# Altium schematic symbol library Connectors.SchLib: 46 symbols
Pins are listed as number, name and electrical type; pins without a type are passive.

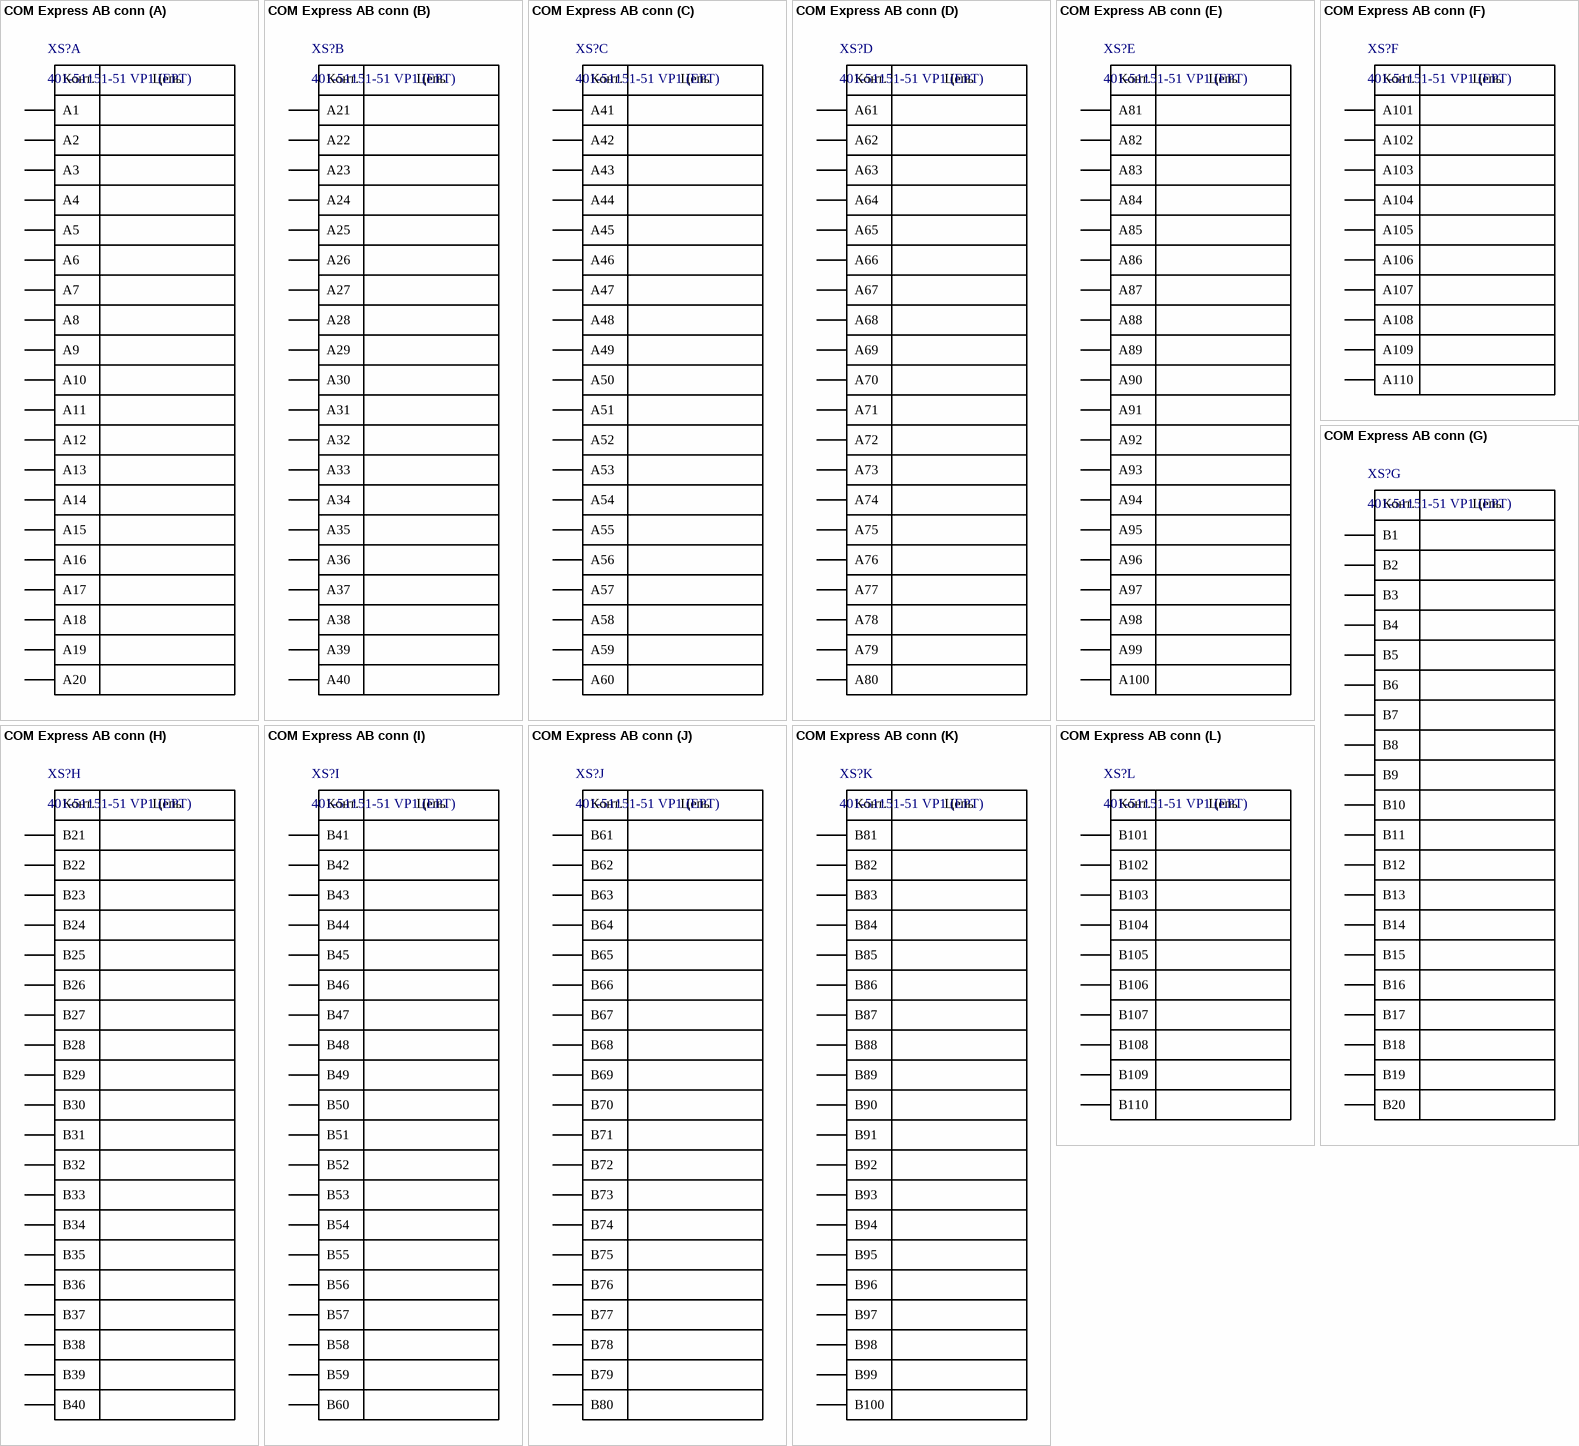
[diagram p0: symbol COM Express AB conn]

## COM Express AB conn
designator XS?, comment 401-51151-51 VP1 (EPT)  Circuit: Цепь  Pin: Конт.
Вилка 220 контактов пайка; value: 401-51151-51 VP1 (EPT)
footprint ept_401-51101-5x_AB
part A pins: A1, A2, A3, A4, A5, A6, A7, A8, A9, A10, A11, A12, A13, A14, A15, A16, A17, A18, A19, A20
part B pins: A21, A22, A23, A24, A25, A26, A27, A28, A29, A30, A31, A32, A33, A34, A35, A36, A37, A38, A39, A40
part C pins: A41, A42, A43, A44, A45, A46, A47, A48, A49, A50, A51, A52, A53, A54, A55, A56, A57, A58, A59, A60
part D pins: A61, A62, A63, A64, A65, A66, A67, A68, A69, A70, A71, A72, A73, A74, A75, A76, A77, A78, A79, A80
part E pins: A81, A82, A83, A84, A85, A86, A87, A88, A89, A90, A91, A92, A93, A94, A95, A96, A97, A98, A99, A100
part F pins: A101, A102, A103, A104, A105, A106, A107, A108, A109, A110
part G pins: B1, B2, B3, B4, B5, B6, B7, B8, B9, B10, B11, B12, B13, B14, B15, B16, B17, B18, B19, B20
part H pins: B21, B22, B23, B24, B25, B26, B27, B28, B29, B30, B31, B32, B33, B34, B35, B36, B37, B38, B39, B40
part I pins: B41, B42, B43, B44, B45, B46, B47, B48, B49, B50, B51, B52, B53, B54, B55, B56, B57, B58, B59, B60
part J pins: B61, B62, B63, B64, B65, B66, B67, B68, B69, B70, B71, B72, B73, B74, B75, B76, B77, B78, B79, B80
part K pins: B81, B82, B83, B84, B85, B86, B87, B88, B89, B90, B91, B92, B93, B94, B95, B96, B97, B98, B99, B100
part L pins: B101, B102, B103, B104, B105, B106, B107, B108, B109, B110

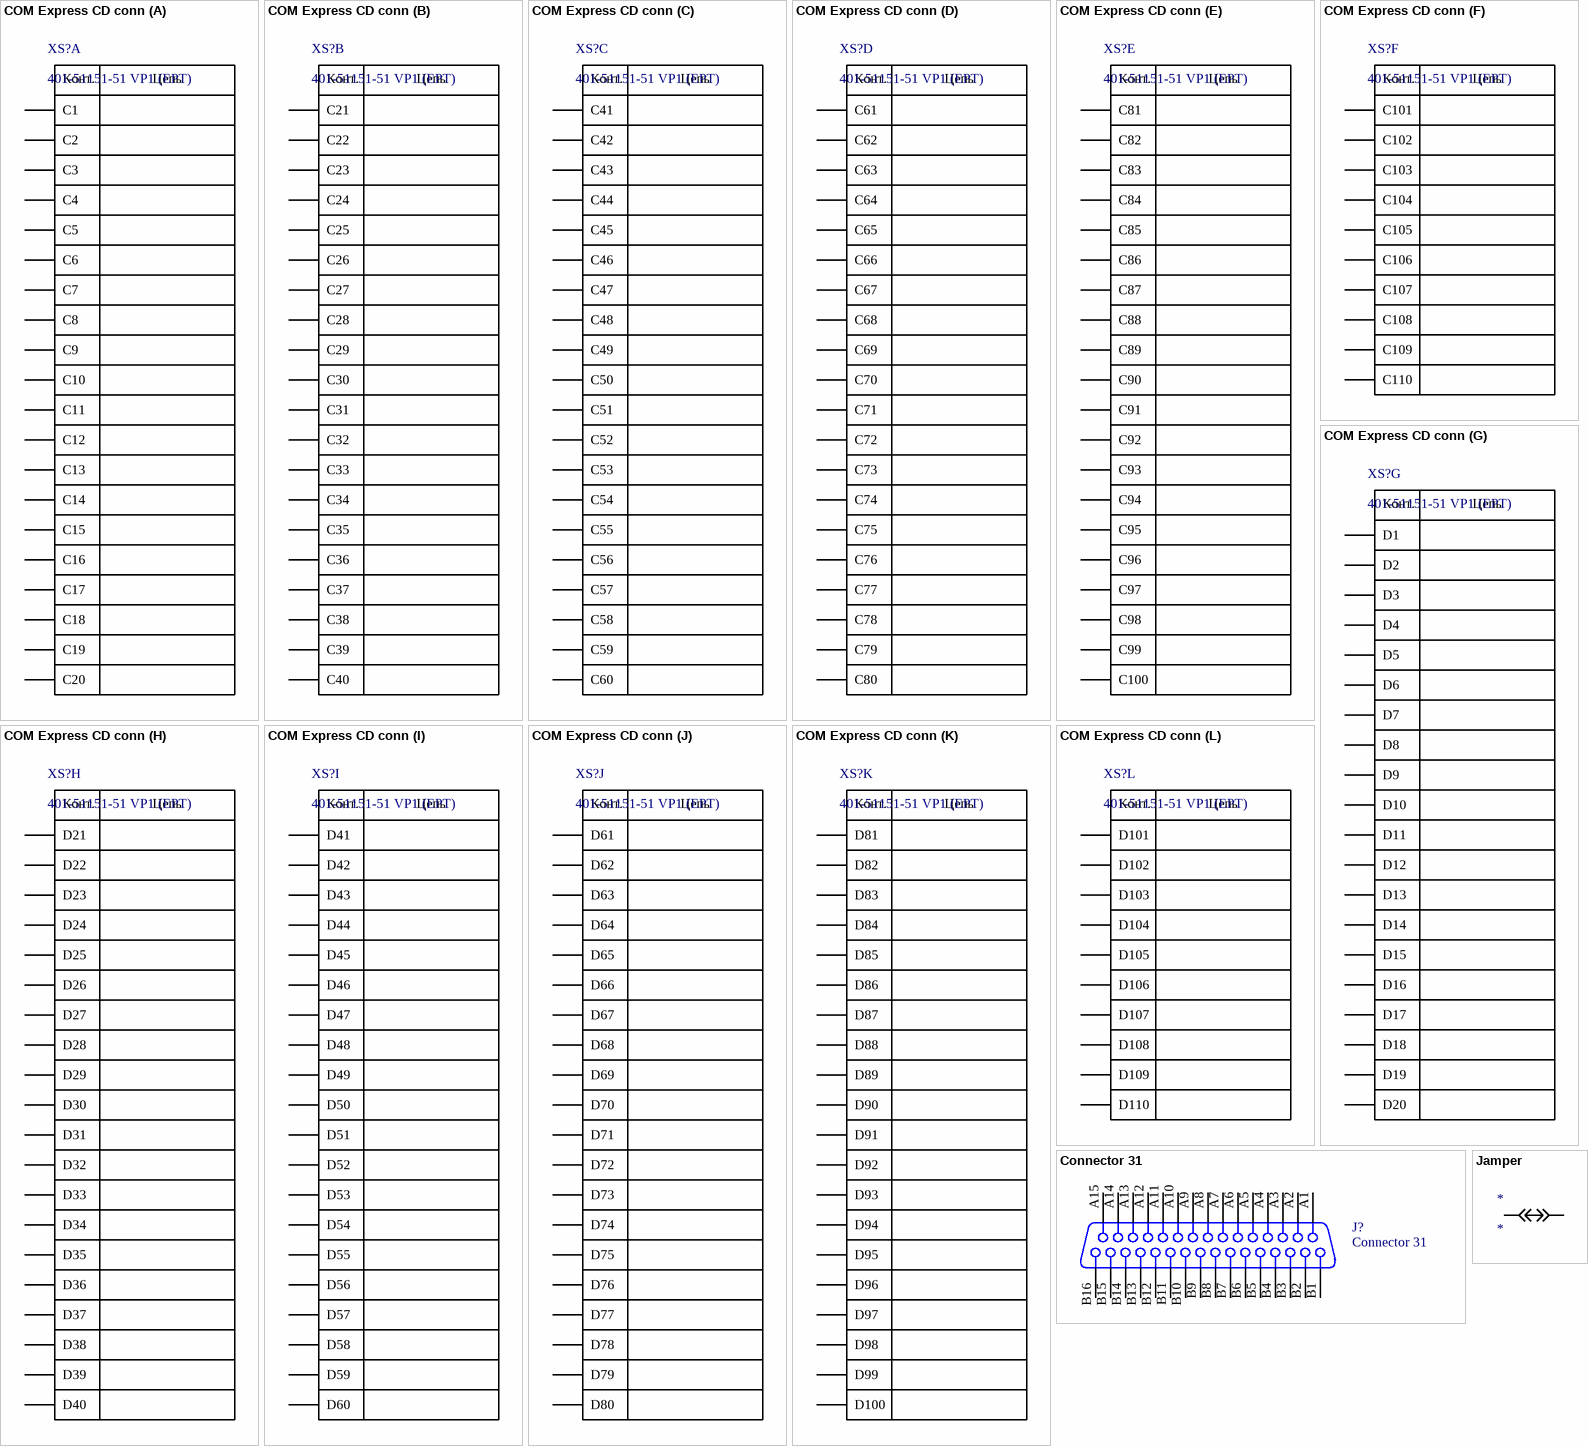
[diagram p1: symbols COM Express CD conn to Jamper]

## COM Express CD conn
designator XS?, comment 401-51151-51 VP1 (EPT)  Circuit: Цепь  Pin: Конт.
Вилка 220 контактов пайка; value: 401-51151-51 VP1 (EPT)
footprint ept_401-51101-5x_CD
part A pins: C1, C2, C3, C4, C5, C6, C7, C8, C9, C10, C11, C12, C13, C14, C15, C16, C17, C18, C19, C20
part B pins: C21, C22, C23, C24, C25, C26, C27, C28, C29, C30, C31, C32, C33, C34, C35, C36, C37, C38, C39, C40
part C pins: C41, C42, C43, C44, C45, C46, C47, C48, C49, C50, C51, C52, C53, C54, C55, C56, C57, C58, C59, C60
part D pins: C61, C62, C63, C64, C65, C66, C67, C68, C69, C70, C71, C72, C73, C74, C75, C76, C77, C78, C79, C80
part E pins: C81, C82, C83, C84, C85, C86, C87, C88, C89, C90, C91, C92, C93, C94, C95, C96, C97, C98, C99, C100
part F pins: C101, C102, C103, C104, C105, C106, C107, C108, C109, C110
part G pins: D1, D2, D3, D4, D5, D6, D7, D8, D9, D10, D11, D12, D13, D14, D15, D16, D17, D18, D19, D20
part H pins: D21, D22, D23, D24, D25, D26, D27, D28, D29, D30, D31, D32, D33, D34, D35, D36, D37, D38, D39, D40
part I pins: D41, D42, D43, D44, D45, D46, D47, D48, D49, D50, D51, D52, D53, D54, D55, D56, D57, D58, D59, D60
part J pins: D61, D62, D63, D64, D65, D66, D67, D68, D69, D70, D71, D72, D73, D74, D75, D76, D77, D78, D79, D80
part K pins: D81, D82, D83, D84, D85, D86, D87, D88, D89, D90, D91, D92, D93, D94, D95, D96, D97, D98, D99, D100
part L pins: D101, D102, D103, D104, D105, D106, D107, D108, D109, D110

## Connector 31
designator J?
Разъем; PackageDocument: F; Positions: 34; Gender: Receptacle Header; Published: 15-Jun-2001; LatestRevisionDate: 17-Jul-2002; LatestRevisionNote: Re-released for DXP Platform.; DatasheetDocument: 3-Apr-1991; PackageReference: 174207-5; Publisher: Altium Limited; Orientation: Right Angle
footprint 050DSUB1.27-2H34 (Connector; D Subminiature; 34 Position; Right Angle; Pitch 1.27 mm)
signal-integrity model Connector
pins: A1, A2, A3, A4, A5, A6, A7, A8, A9, A10, A11, A12, A13, A14, A15, B1, B2, B3, B4, B5, B6, B7, B8, B9, B10, B11, B12, B13, B14, B15, B16

## Jamper
designator *
footprint power_jamper
pins: 1, 2

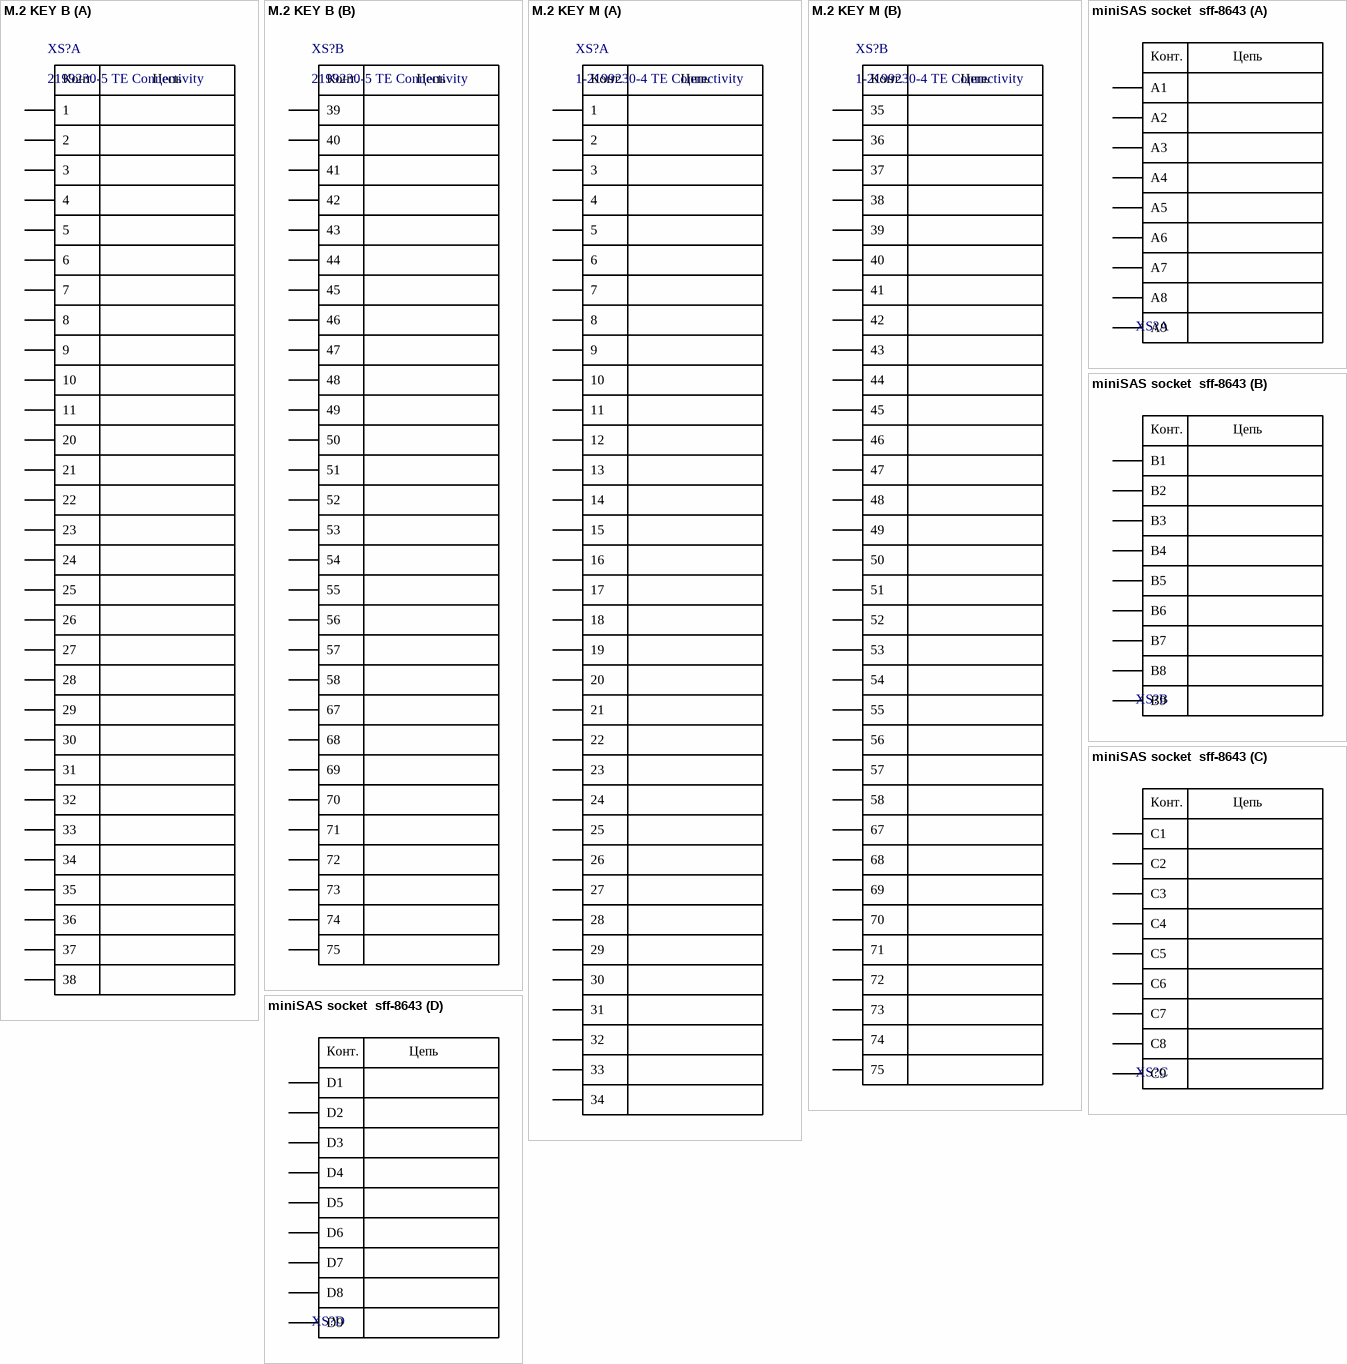
[diagram p2: symbols M.2 KEY B to miniSAS socket  sff-8643]

## M.2 KEY B
designator XS?, comment 2199230-5 TE Connectivity  Circuit: Цепь  Pin: Конт.
M.2 0.5PITCH 4.2H KEY B 30U'' AU; value: 2199230-5 TE Connectivity
footprint CONN67_2199230_B (M.2 slot key B)
part A pins: 1, 2, 3, 4, 5, 6, 7, 8, 9, 10, 11, 20, 21, 22, 23, 24, 25, 26, 27, 28, 29, 30, 31, 32, 33, 34, 35, 36, 37, 38
part B pins: 39, 40, 41, 42, 43, 44, 45, 46, 47, 48, 49, 50, 51, 52, 53, 54, 55, 56, 57, 58, 67, 68, 69, 70, 71, 72, 73, 74, 75

## M.2 KEY M
designator XS?, comment 1-2199230-4 TE Connectivity  Circuit: Цепь  Pin: Конт.
M.2 0.5PITCH 4.2H KEY M 10U'' AU; value: 1-2199230-4 TE Connectivity
footprint CONN67_2199230_M (M.2 slot key M)
part A pins: 1, 2, 3, 4, 5, 6, 7, 8, 9, 10, 11, 12, 13, 14, 15, 16, 17, 18, 19, 20, 21, 22, 23, 24, 25, 26, 27, 28, 29, 30, 31, 32, 33, 34
part B pins: 35, 36, 37, 38, 39, 40, 41, 42, 43, 44, 45, 46, 47, 48, 49, 50, 51, 52, 53, 54, 55, 56, 57, 58, 67, 68, 69, 70, 71, 72, 73, 74, 75

## miniSAS socket  sff-8643
designator XS?, comment Circuit: Цепь  Pin: Конт.  (hidden comment: 10112632-101LF AMPHENOL Co.)
value: 10112632-101LF AMPHENOL Co.; rus_value: 10112632-101LF AMPHENOL Co.
footprint SFF-8643
part A pins: A1, A2, A3, A4, A5, A6, A7, A8, A9
part B pins: B1, B2, B3, B4, B5, B6, B7, B8, B9
part C pins: C1, C2, C3, C4, C5, C6, C7, C8, C9
part D pins: D1, D2, D3, D4, D5, D6, D7, D8, D9

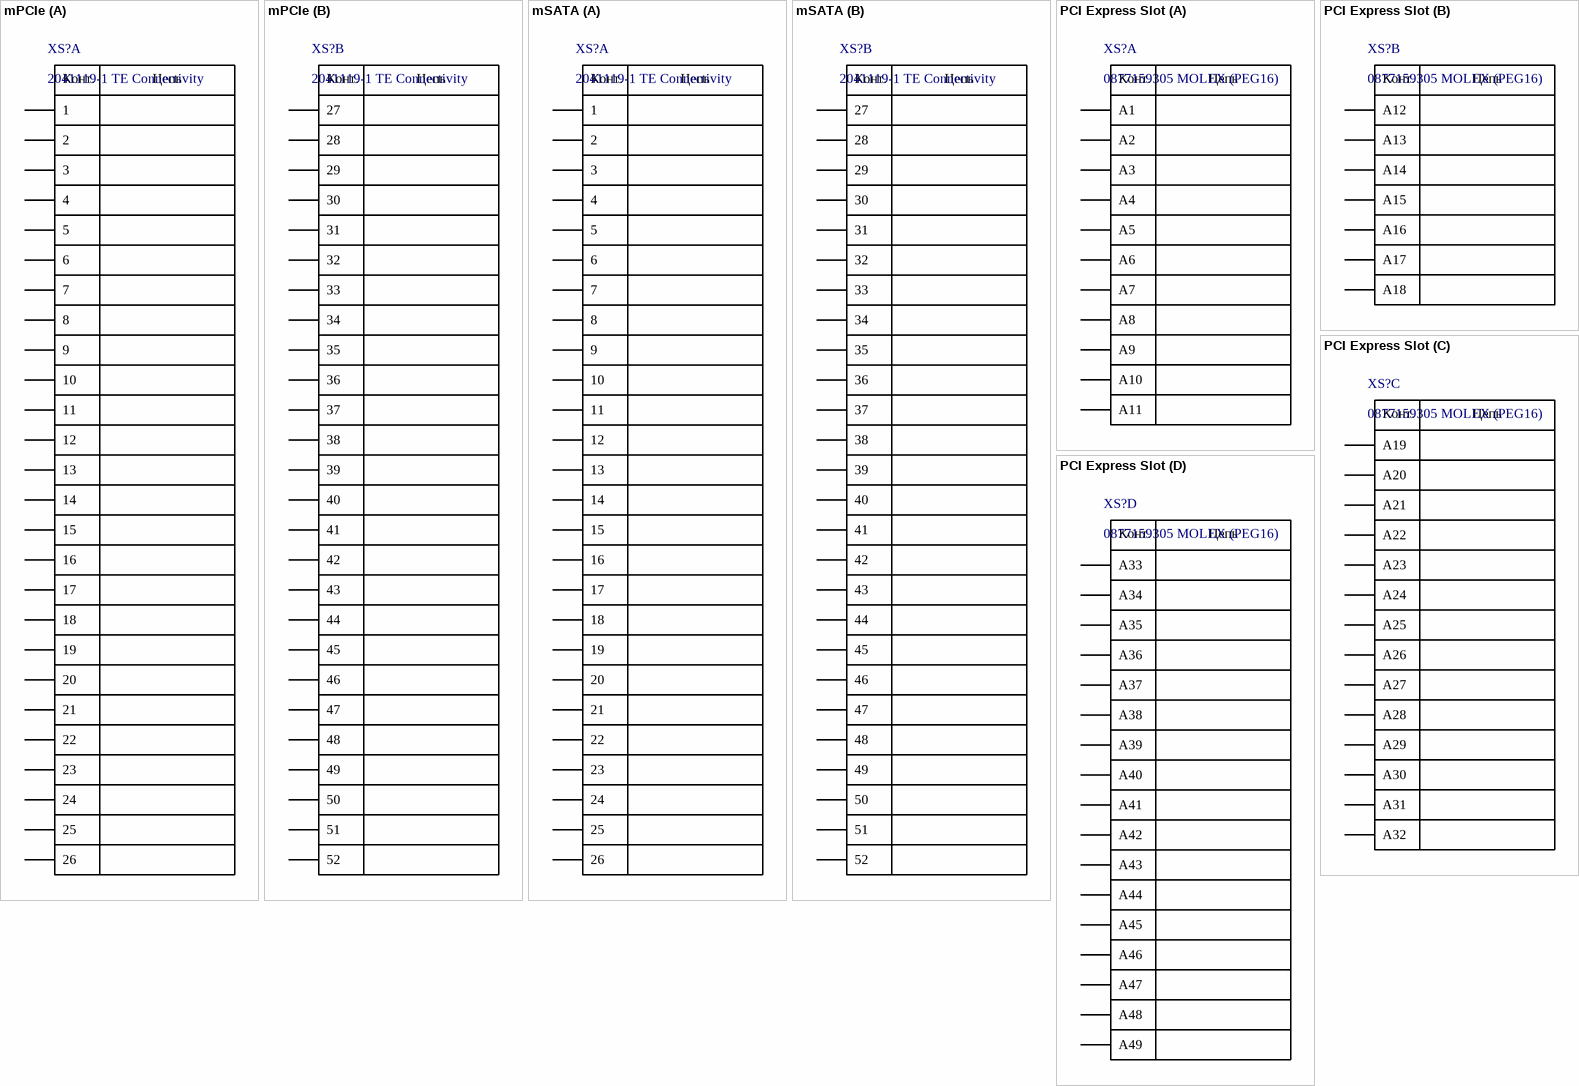
[diagram p3: symbols mPCIe to PCI Express Slot]

## mPCIe
designator XS?, comment 2041119-1 TE Connectivity  Circuit: Цепь  Pin: Конт.
Слот mPCIe; value: 2041119-1 TE Connectivity
part A pins: 1, 2, 3, 4, 5, 6, 7, 8, 9, 10, 11, 12, 13, 14, 15, 16, 17, 18, 19, 20, 21, 22, 23, 24, 25, 26
part B pins: 27, 28, 29, 30, 31, 32, 33, 34, 35, 36, 37, 38, 39, 40, 41, 42, 43, 44, 45, 46, 47, 48, 49, 50, 51, 52

## mSATA
designator XS?, comment 2041119-1 TE Connectivity  Circuit: Цепь  Pin: Конт.
Слот mSATA; value: 2041119-1 TE Connectivity
part A pins: 1, 2, 3, 4, 5, 6, 7, 8, 9, 10, 11, 12, 13, 14, 15, 16, 17, 18, 19, 20, 21, 22, 23, 24, 25, 26
part B pins: 27, 28, 29, 30, 31, 32, 33, 34, 35, 36, 37, 38, 39, 40, 41, 42, 43, 44, 45, 46, 47, 48, 49, 50, 51, 52

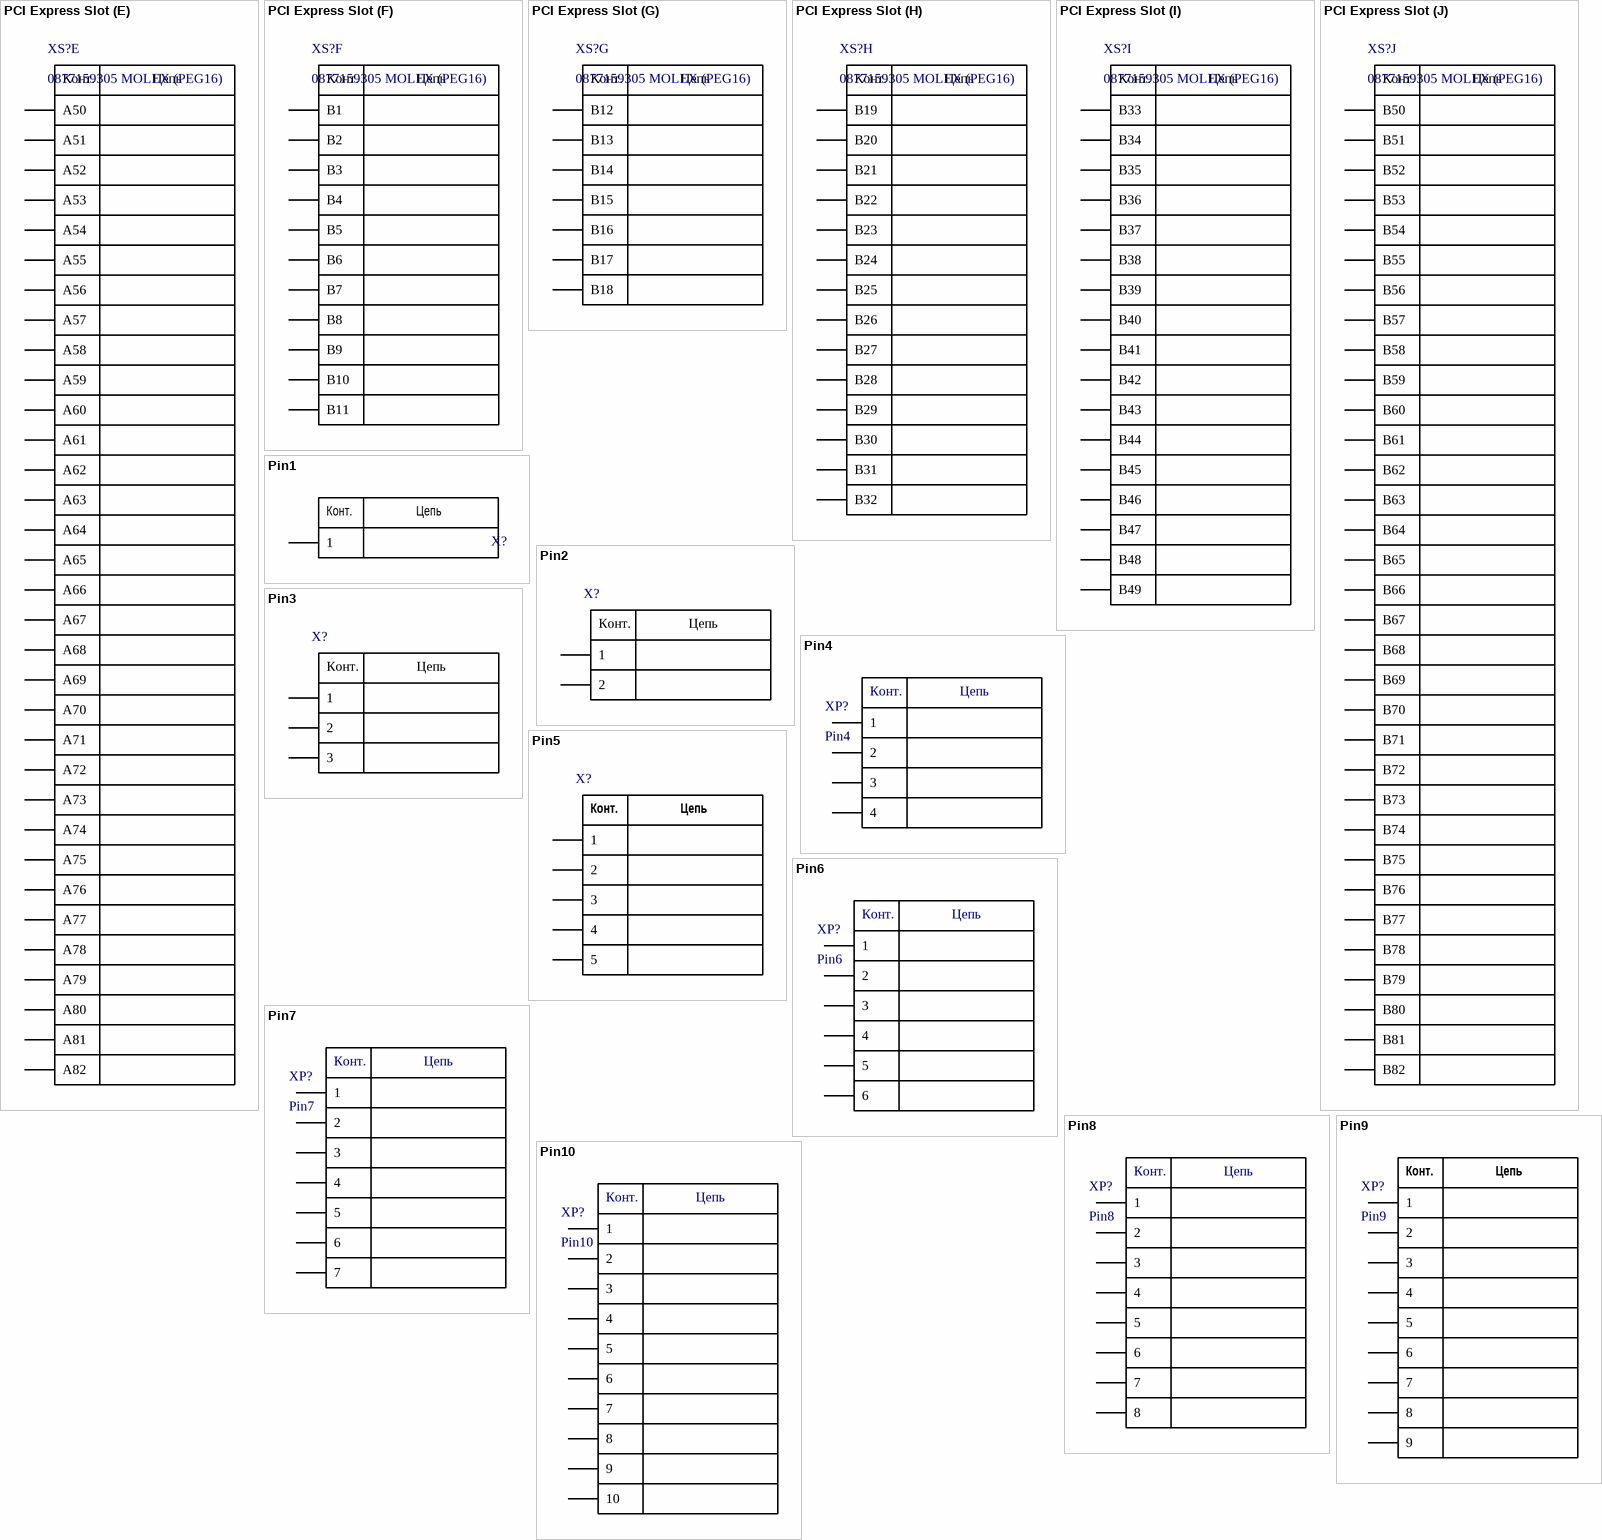
[diagram p4: symbols PCI Express Slot to Pin10]

## PCI Express Slot
designator XS?, comment 0877159305 MOLEX (PEG16)  Circuit: Цепь  Pin: Конт.
Слот PCIe 16line; value: 0877159305 MOLEX (PEG16)
part A pins: A1, A2, A3, A4, A5, A6, A7, A8, A9, A10, A11
part B pins: A12, A13, A14, A15, A16, A17, A18
part C pins: A19, A20, A21, A22, A23, A24, A25, A26, A27, A28, A29, A30, A31, A32
part D pins: A33, A34, A35, A36, A37, A38, A39, A40, A41, A42, A43, A44, A45, A46, A47, A48, A49
part E pins: A50, A51, A52, A53, A54, A55, A56, A57, A58, A59, A60, A61, A62, A63, A64, A65, A66, A67, A68, A69, A70, A71, A72, A73, A74, A75, A76, A77, A78, A79, A80, A81, A82
part F pins: B1, B2, B3, B4, B5, B6, B7, B8, B9, B10, B11
part G pins: B12, B13, B14, B15, B16, B17, B18
part H pins: B19, B20, B21, B22, B23, B24, B25, B26, B27, B28, B29, B30, B31, B32
part I pins: B33, B34, B35, B36, B37, B38, B39, B40, B41, B42, B43, B44, B45, B46, B47, B48, B49
part J pins: B50, B51, B52, B53, B54, B55, B56, B57, B58, B59, B60, B61, B62, B63, B64, B65, B66, B67, B68, B69, B70, B71, B72, B73, B74, B75, B76, B77, B78, B79, B80, B81, B82

## Pin1
designator X?  Pin: Конт.  Circuit: Цепь  (hidden comment: Pin1)
Разъем; value: *; rus_value: *
footprint PLS-1
pins: 1

## Pin2
designator X?, comment Circuit: Цепь  Pin: Конт.  (hidden comment: pin2)
value: pin2; rus_value: pin2
pins: 1, 2

## Pin3
designator X?, comment Circuit: Цепь  Pin: Конт.  (hidden comment: pin3)
value: pin3; rus_value: pin3
pins: 1, 2, 3

## Pin4
designator XP?  Circuit: Цепь  Pin: Конт.
value: Pin4; rus_value: Pin4
pins: 1, 2, 3, 4

## Pin5
designator X?, comment Circuit: Цепь  Pin: Конт.  (hidden comment: pin5)
value: pin5; rus_value: pin5
pins: 1, 2, 3, 4, 5

## Pin6
designator XP?  Circuit: Цепь  Pin: Конт.
value: Pin6; rus_value: Pin6
pins: 1, 2, 3, 4, 5, 6

## Pin7
designator XP?  Circuit: Цепь  Pin: Конт.
value: Pin7; rus_value: Pin7
pins: 1, 2, 3, 4, 5, 6, 7

## Pin8
designator XP?  Circuit: Цепь  Pin: Конт.
value: Pin8; rus_value: Pin8
pins: 1, 2, 3, 4, 5, 6, 7, 8

## Pin9
designator XP?  Circuit: Цепь  Pin: Конт.
value: Pin12; rus_value: Pin12
pins: 1, 2, 3, 4, 5, 6, 7, 8, 9

## Pin10
designator XP?  Circuit: Цепь  Pin: Конт.
value: Pin12; rus_value: Pin12
pins: 1, 2, 3, 4, 5, 6, 7, 8, 9, 10

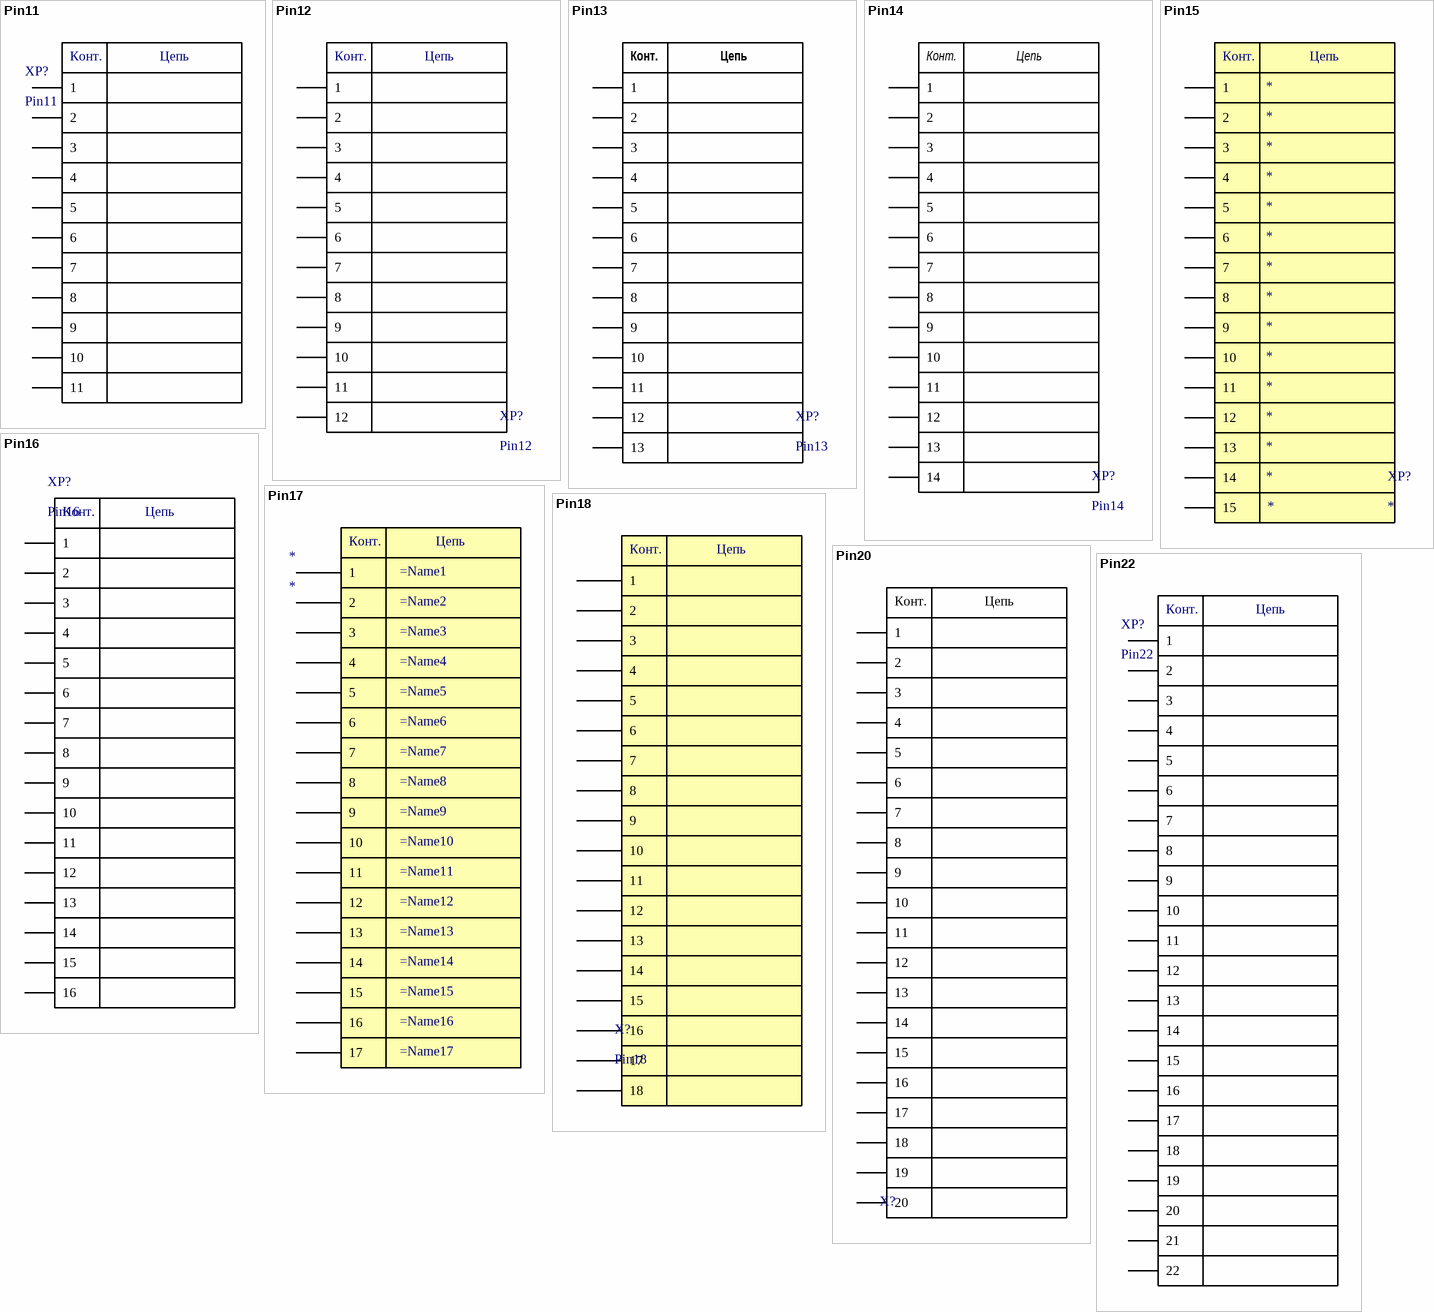
[diagram p5: symbols Pin11 to Pin22]

## Pin11
designator XP?  Circuit: Цепь  Pin: Конт.
value: Pin11; rus_value: Pin11
pins: 1, 2, 3, 4, 5, 6, 7, 8, 9, 10, 11

## Pin12
designator XP?  Circuit: Цепь  Pin: Конт.
value: Pin12; rus_value: Pin12
pins: 1, 2, 3, 4, 5, 6, 7, 8, 9, 10, 11, 12

## Pin13
designator XP?  Circuit: Цепь  Pin: Конт.
value: Pin12; rus_value: Pin12
pins: 1, 2, 3, 4, 5, 6, 7, 8, 9, 10, 11, 12, 13

## Pin14
designator XP?  Circuit: Цепь  Pin: Конт.
value: Pin12; rus_value: Pin12
pins: 1, 2, 3, 4, 5, 6, 7, 8, 9, 10, 11, 12, 13, 14

## Pin15
designator XP?
Name1: *; Name2: *; Name3: *; Name4: *; Name5: *; Name6: *; Name7: *; Name8: *; Name9: *; Name10: *; Name11: *; Name12: *; Name13: *; Name14: *; Name15: *; value: *; rus_value: *
pins: 1, 2, 3, 4, 5, 6, 7, 8, 9, 10, 11, 12, 13, 14, 15
text: Конт.; Цепь

## Pin16
designator XP?  Pin: Конт.  Circuit: Цепь
rus_value: Pin16; value: Pin16
footprint BH1.27-16
footprint IDC16
pins: 1, 2, 3, 4, 5, 6, 7, 8, 9, 10, 11, 12, 13, 14, 15, 16

## Pin17
designator *
pins: 1, 2, 3, 4, 5, 6, 7, 8, 9, 10, 11, 12, 13, 14, 15, 16, 17
text: Конт.; Цепь

## Pin18
designator X?
Name1: *
footprint IDC16
pins: 1, 2, 3, 4, 5, 6, 7, 8, 9, 10, 11, 12, 13, 14, 15, 16, 17, 18
text: Конт.; Цепь

## Pin20
designator X?, comment Circuit: Цепь  Pin: Конт.  (hidden comment: pin23)
value: pin23; rus_value: pin23
pins: 1, 2, 3, 4, 5, 6, 7, 8, 9, 10, 11, 12, 13, 14, 15, 16, 17, 18, 19, 20

## Pin22
designator XP?  Circuit: Цепь  Pin: Конт.
value: Pin12; rus_value: Pin12
pins: 1, 2, 3, 4, 5, 6, 7, 8, 9, 10, 11, 12, 13, 14, 15, 16, 17, 18, 19, 20, 21, 22

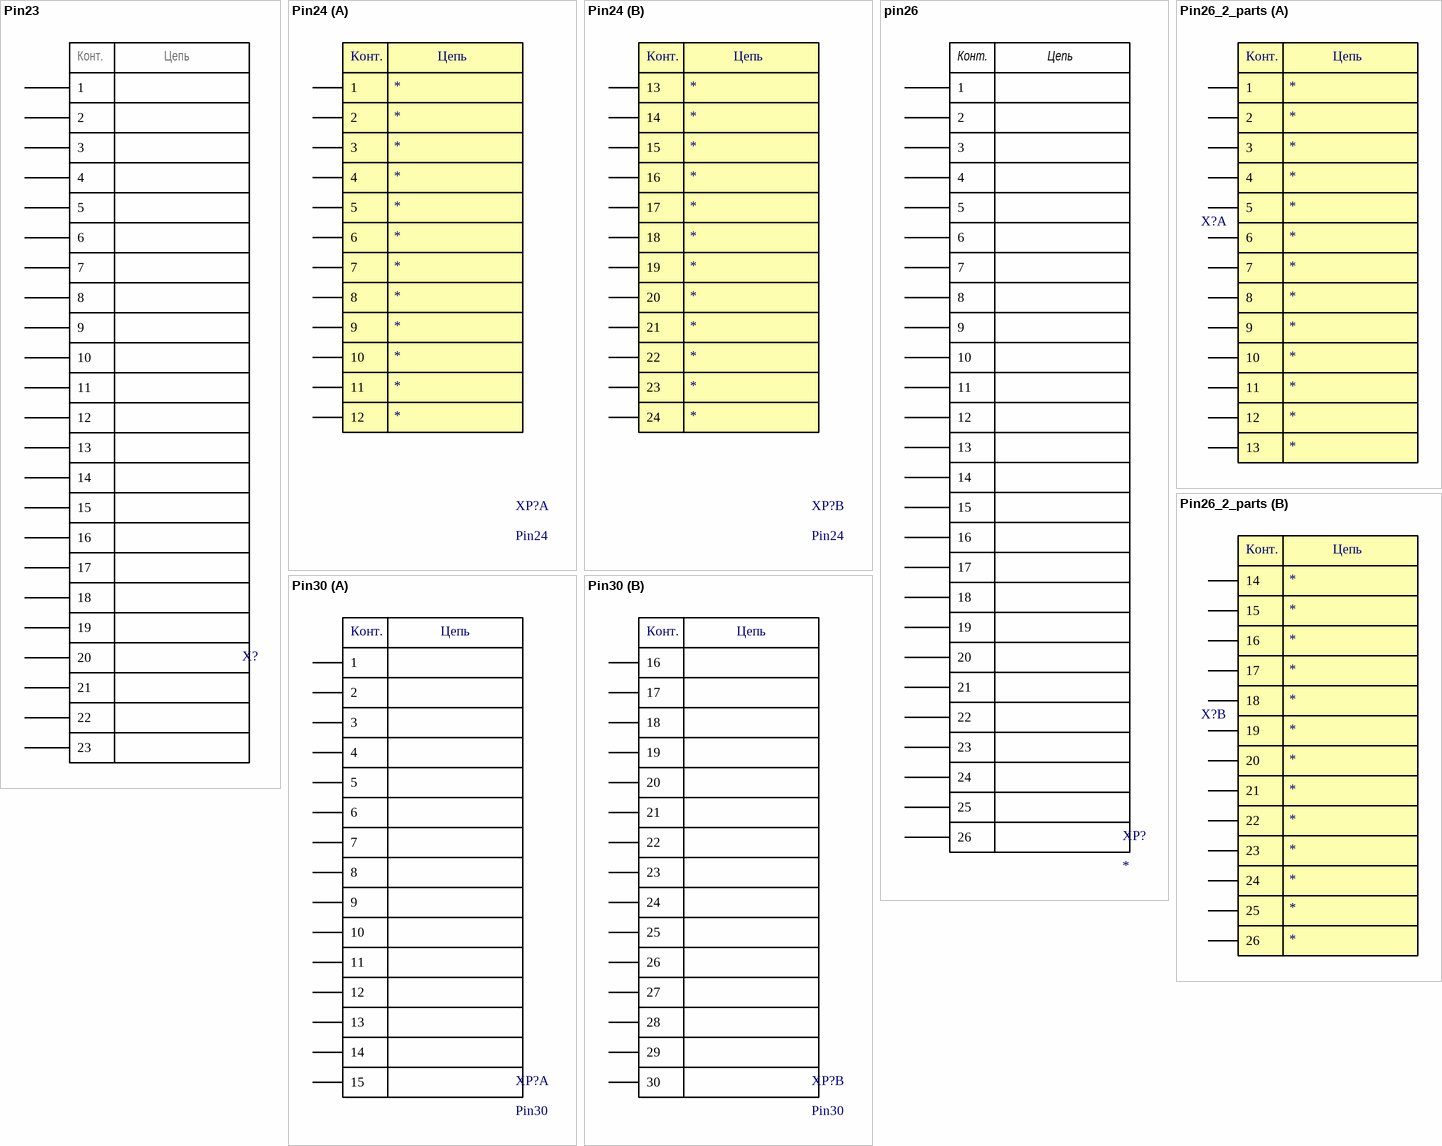
[diagram p6: symbols Pin23 to Pin30]

## Pin23
designator X?, comment pin23  (value not drawn)
value: pin23; rus_value: pin23
pins: 1, 2, 3, 4, 5, 6, 7, 8, 9, 10, 11, 12, 13, 14, 15, 16, 17, 18, 19, 20, 21, 22, 23
text: Конт.; Цепь

## Pin24
designator XP?
Name16: *; Name17: *; Name18: *; Name19: *; Name20: *; Name21: *; Name22: *; Name23: *; Name24: *; Name1: *; Name2: *; Name3: *; Name4: *; Name5: *; Name6: *; Name7: *; Name8: *; Name9: *; Name10: *; Name11: *; Name12: *; Name13: *; Name14: *; Name15: *
part A pins: 1, 2, 3, 4, 5, 6, 7, 8, 9, 10, 11, 12
part B pins: 13, 14, 15, 16, 17, 18, 19, 20, 21, 22, 23, 24
part A text: Конт.; Цепь
part B text: Конт.; Цепь

## pin26
designator XP?  Контакт: Конт.
Разъем; value: *; rus_value: *; Цепь: Цепь
pins: 1, 2, 3, 4, 5, 6, 7, 8, 9, 10, 11, 12, 13, 14, 15, 16, 17, 18, 19, 20, 21, 22, 23, 24, 25, 26

## Pin26_2_parts
designator X?  (value not drawn)
Name1: *; Name2: *; Name3: *; Name4: *; Name5: *; Name6: *; Name7: *; Name8: *; Name9: *; Name10: *; Name11: *; Name12: *; Name13: *; Name14: *; Name15: *; Name16: *; Name17: *; Name18: *; Name19: *; Name20: *; Name21: *; Name22: *; Name23: *; Name24: *; Name25: *; Name26: *
part A pins: 1, 2, 3, 4, 5, 6, 7, 8, 9, 10, 11, 12, 13
part B pins: 14, 15, 16, 17, 18, 19, 20, 21, 22, 23, 24, 25, 26
part A text: Конт.; Цепь
part B text: Конт.; Цепь

## Pin30
designator XP?  Circuit: Цепь  Pin: Конт.
value: Pin30; rus_value: Pin30
footprint IDC16
part A pins: 1, 2, 3, 4, 5, 6, 7, 8, 9, 10, 11, 12, 13, 14, 15
part B pins: 16, 17, 18, 19, 20, 21, 22, 23, 24, 25, 26, 27, 28, 29, 30

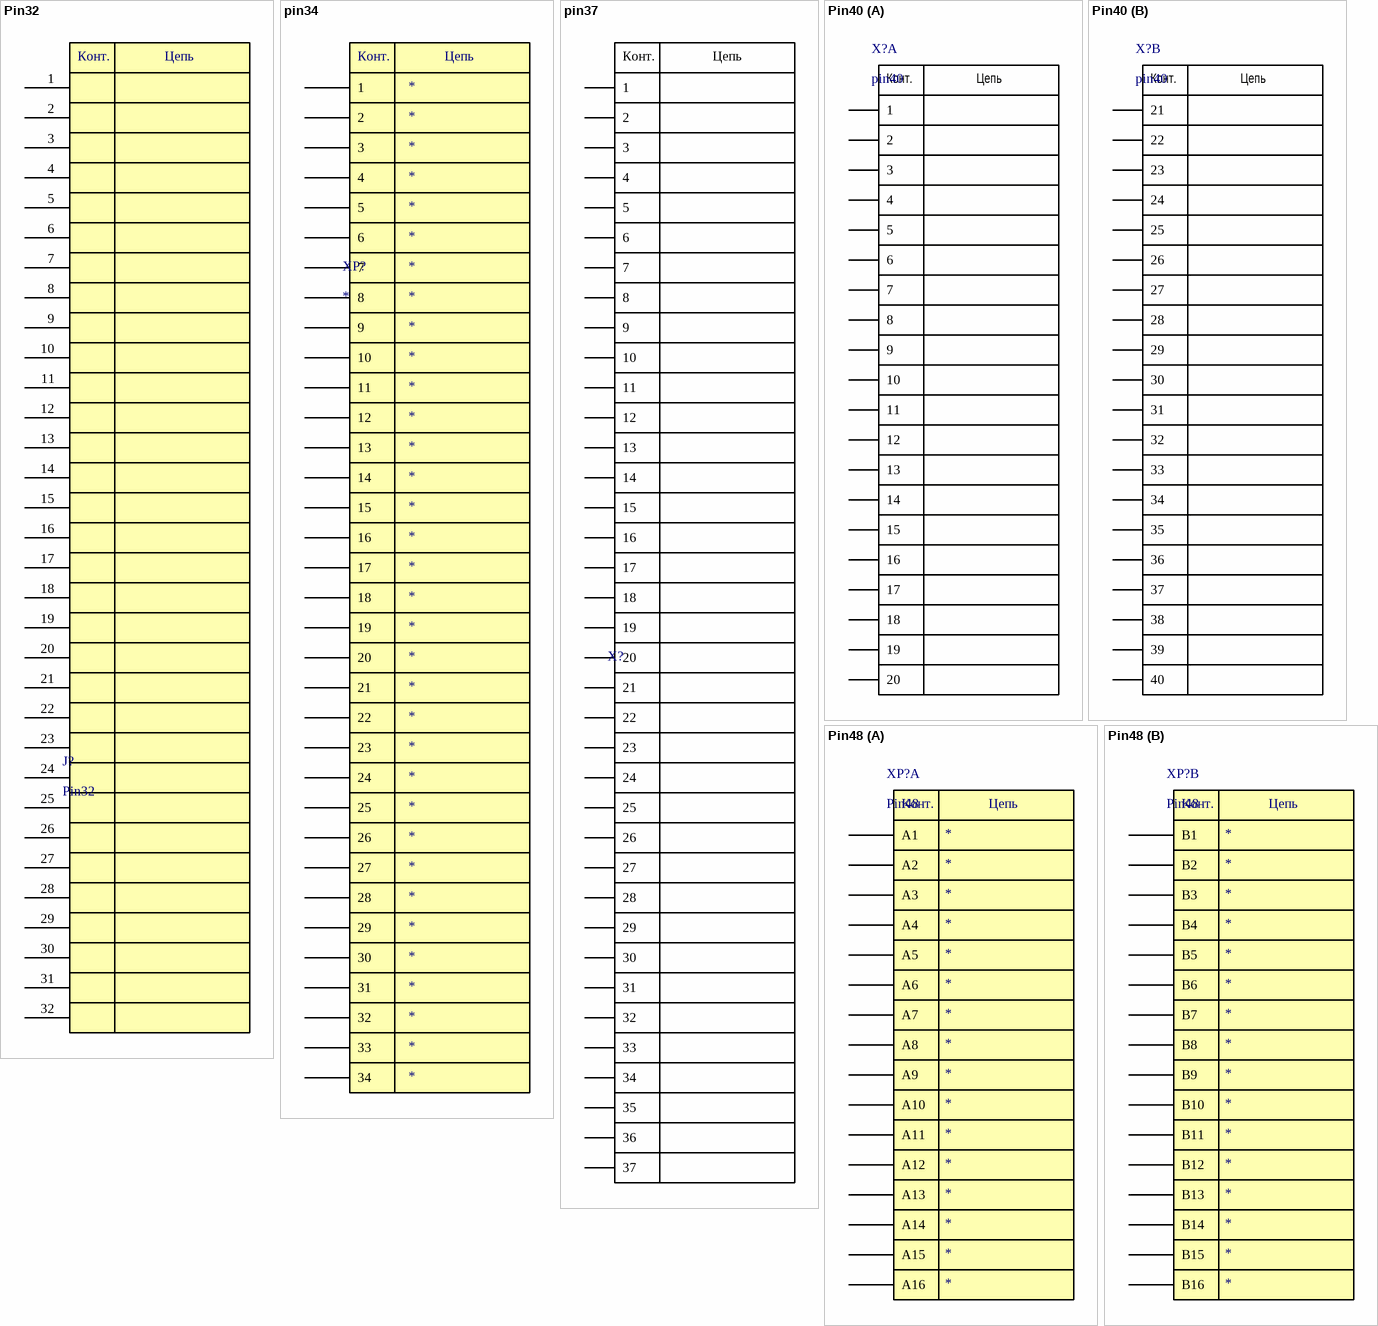
[diagram p7: symbols Pin32 to Pin48]

## Pin32
designator J?
Name1: *
footprint plld1.2-2x40S-Обрезанный-32PIN
footprint plld1.27 - 2x16S
pins: 1, 2, 3, 4, 5, 6, 7, 8, 9, 10, 11, 12, 13, 14, 15, 16, 17, 18, 19, 20, 21, 22, 23, 24, 25, 26, 27, 28, 29, 30, 31, 32
text: Конт.; Цепь

## pin34
designator XP?
Name1: *; Name2: *; Name3: *; Name4: *; Name5: *; Name6: *; Name7: *; Name8: *; Name9: *; Name10: *; Name11: *; Name12: *; Name13: *; Name14: *; Name15: *; Name16: *; Name17: *; Name18: *; Name19: *; Name20: *; Name21: *; Name22: *; Name23: *; Name24: *; Name25: *; Name26: *; Name27: *; Name28: *; Name29: *; Name30: *; Name31: *; Name32: *; Name33: *; Name34: *; value: *; rus_value: *
pins: 1, 2, 3, 4, 5, 6, 7, 8, 9, 10, 11, 12, 13, 14, 15, 16, 17, 18, 19, 20, 21, 22, 23, 24, 25, 26, 27, 28, 29, 30, 31, 32, 33, 34
text: Конт.; Цепь

## pin37
designator X?, comment Circuit: Цепь  Pin: Конт.  (hidden comment: pin23)
value: pin23; rus_value: pin23
pins: 1, 2, 3, 4, 5, 6, 7, 8, 9, 10, 11, 12, 13, 14, 15, 16, 17, 18, 19, 20, 21, 22, 23, 24, 25, 26, 27, 28, 29, 30, 31, 32, 33, 34, 35, 36, 37

## Pin40
designator X?, comment pin40  Circuit: Цепь  Pin: Конт.
rus_value: pin40; value: pin40
footprint MF20
footprint PBD-40
part A pins: 1, 2, 3, 4, 5, 6, 7, 8, 9, 10, 11, 12, 13, 14, 15, 16, 17, 18, 19, 20
part B pins: 21, 22, 23, 24, 25, 26, 27, 28, 29, 30, 31, 32, 33, 34, 35, 36, 37, 38, 39, 40

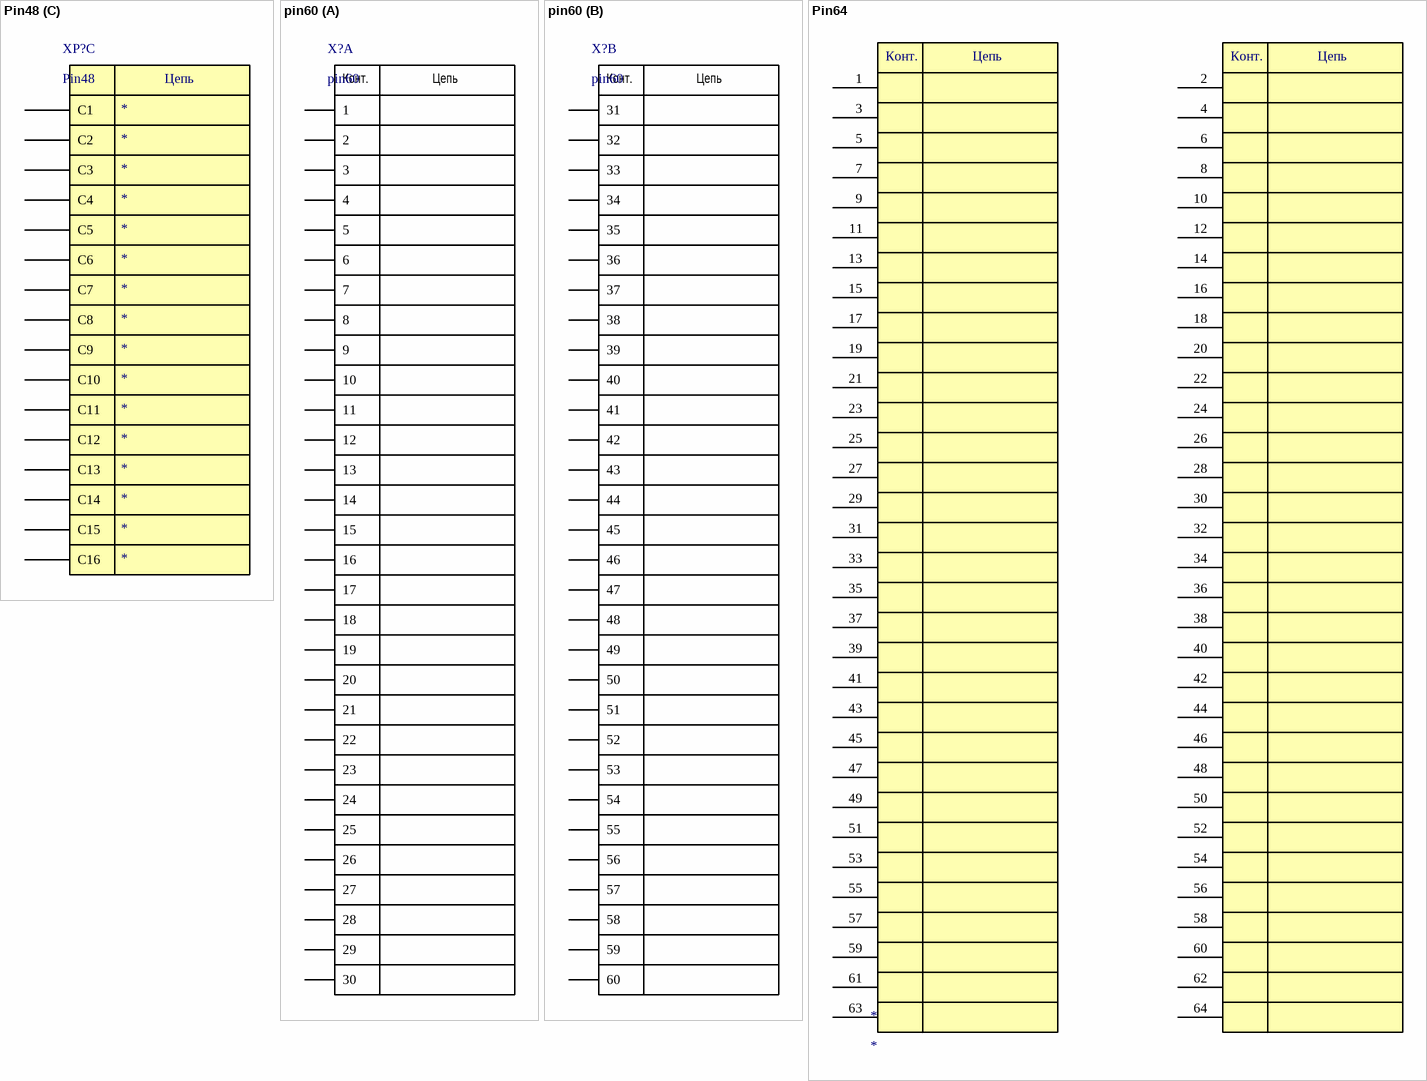
[diagram p8: symbols Pin48 to Pin64]

## Pin48
designator XP?
Name1: *; Name2: *; Name3: *; Name4: *; Name5: *; Name6: *; Name7: *; Name8: *; Name9: *; Name10: *; Name11: *; Name12: *; Name13: *; Name14: *; Name15: *; Name16: *
footprint BH1.27-16
footprint IDC16
part A pins: A1, A2, A3, A4, A5, A6, A7, A8, A9, A10, A11, A12, A13, A14, A15, A16
part B pins: B1, B2, B3, B4, B5, B6, B7, B8, B9, B10, B11, B12, B13, B14, B15, B16
part C pins: C1, C2, C3, C4, C5, C6, C7, C8, C9, C10, C11, C12, C13, C14, C15, C16
part A text: Конт.; Цепь
part B text: Конт.; Цепь
part C text: Цепь

## pin60
designator X?  Circuit: Цепь  Pin: Конт.
value: pin60; rus_value: pin60
footprint PBD-60
part A pins: 1, 2, 3, 4, 5, 6, 7, 8, 9, 10, 11, 12, 13, 14, 15, 16, 17, 18, 19, 20, 21, 22, 23, 24, 25, 26, 27, 28, 29, 30
part B pins: 31, 32, 33, 34, 35, 36, 37, 38, 39, 40, 41, 42, 43, 44, 45, 46, 47, 48, 49, 50, 51, 52, 53, 54, 55, 56, 57, 58, 59, 60

## Pin64
designator *
footprint IDC-64
footprint IDCC-64MS
pins: 1, 2, 3, 4, 5, 6, 7, 8, 9, 10, 11, 12, 13, 14, 15, 16, 17, 18, 19, 20, 21, 22, 23, 24, 25, 26, 27, 28, 29, 30, 31, 32, 33, 34, 35, 36, 37, 38, 39, 40, 41, 42, 43, 44, 45, 46, 47, 48, 49, 50, 51, 52, 53, 54, 55, 56, 57, 58, 59, 60, 61, 62, 63, 64
text: Конт.; Цепь

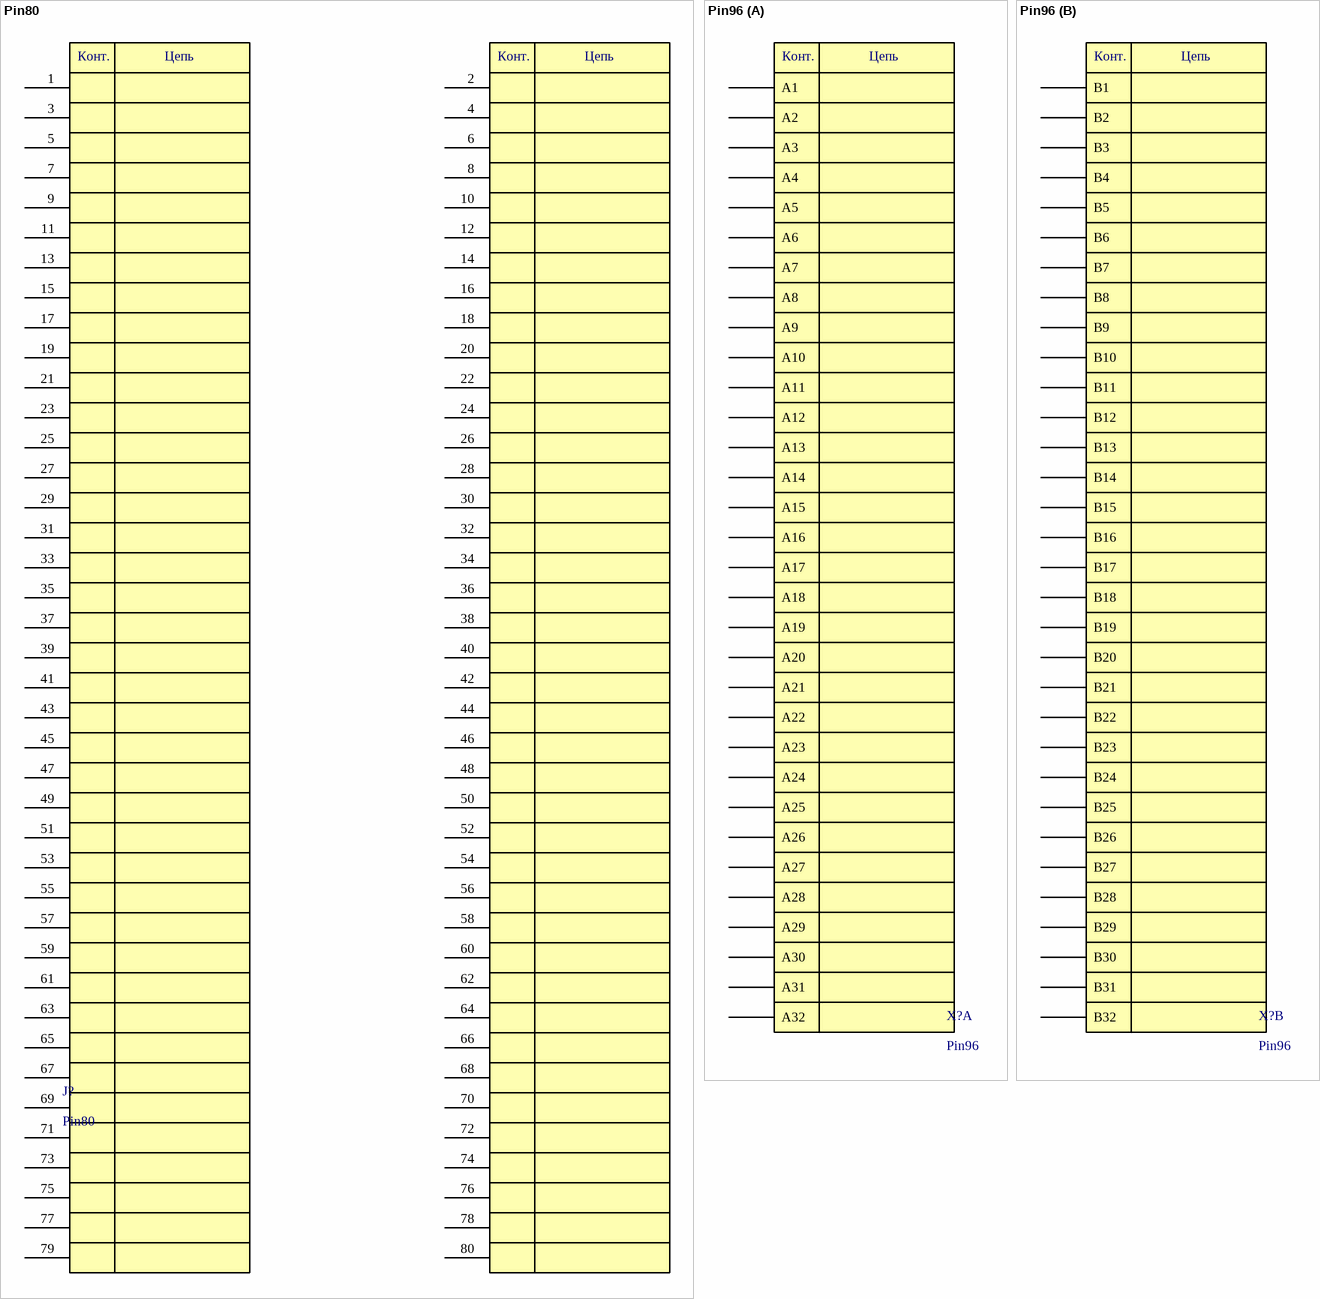
[diagram p9: symbols Pin80 to Pin96]

## Pin80
designator J?
Name1: *
footprint BH1.27-80
footprint plld1.2-2x40S
pins: 1, 2, 3, 4, 5, 6, 7, 8, 9, 10, 11, 12, 13, 14, 15, 16, 17, 18, 19, 20, 21, 22, 23, 24, 25, 26, 27, 28, 29, 30, 31, 32, 33, 34, 35, 36, 37, 38, 39, 40, 41, 42, 43, 44, 45, 46, 47, 48, 49, 50, 51, 52, 53, 54, 55, 56, 57, 58, 59, 60, 61, 62, 63, 64, 65, 66, 67, 68, 69, 70, 71, 72, 73, 74, 75, 76, 77, 78, 79, 80
text: Конт.; Цепь

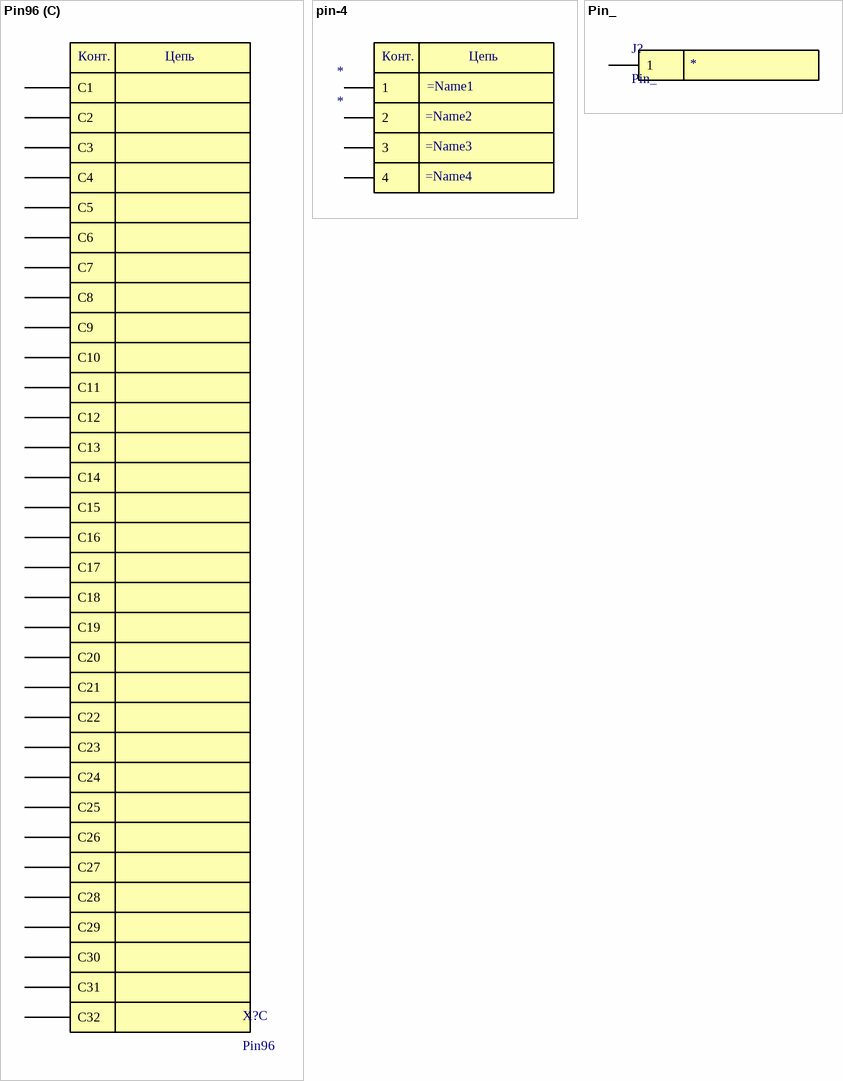
[diagram p10: symbols Pin96 to Pin_]

## Pin96
designator X?
Name1: *
part A pins: A1, A2, A3, A4, A5, A6, A7, A8, A9, A10, A11, A12, A13, A14, A15, A16, A17, A18, A19, A20, A21, A22, A23, A24, A25, A26, A27, A28, A29, A30, A31, A32
part B pins: B1, B2, B3, B4, B5, B6, B7, B8, B9, B10, B11, B12, B13, B14, B15, B16, B17, B18, B19, B20, B21, B22, B23, B24, B25, B26, B27, B28, B29, B30, B31, B32
part C pins: C1, C2, C3, C4, C5, C6, C7, C8, C9, C10, C11, C12, C13, C14, C15, C16, C17, C18, C19, C20, C21, C22, C23, C24, C25, C26, C27, C28, C29, C30, C31, C32
part A text: Конт.; Цепь
part B text: Конт.; Цепь
part C text: Конт.; Цепь

## pin-4
designator *
pins: 1, 2, 3, 4
text: Конт.; Цепь

## Pin_
designator J?
Name1: *
footprint SOCKET
footprint PIN_D2
footprint PLS-1
pins: 1